# EAGLE library part EK-TM4C1294XL_BOOST1 (library EE445L)
Booster pack 1, Texas Instruments TM4C1294 Connected LaunchPad www.ti.com/tool/ek-tm4c1294xl This board is based on the TM4C1294NCPDT microcontroller, which is a120MHz 32-bit ARM Cortex-M4 CPU with floating point, 1MB Flash, 256KB SRAM, 6KB EEPROM, Integrated 10/100 Ethernet MAC+PHY, data protection hardware, 8x 32-bit timers, dual 12-bit 2MSPS ADCs, motion control PWMs, USB H/D/O
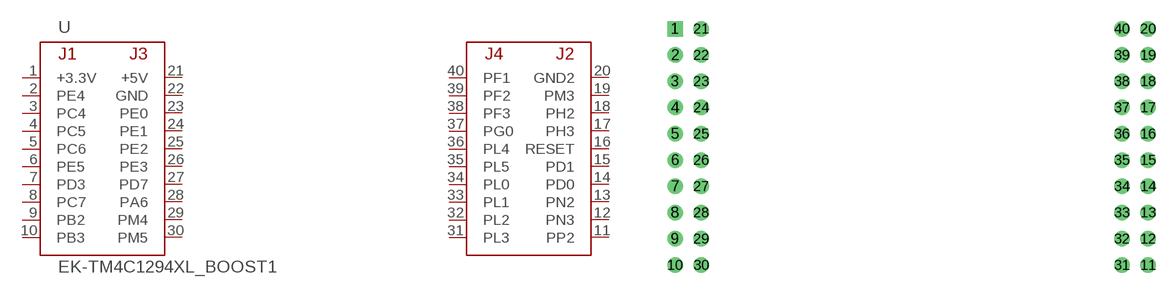
[diagram p25: symbol with the pads of TM4C123LAUNCHPAD; footprint TM4C123LAUNCHPAD]

Designator prefix -

## EK-TM4C1294XL_BOOST1  [TM4C123LAUNCHPAD]
1  +3.3V  pwr
2  PE4
3  PC4
4  PC5
5  PC6
6  PE5
7  PD3
8  PC7
9  PB2
10  PB3
11  PP2
12  PN3
13  PN2
14  PD0
15  PD1
16  RESET  in
17  PH3
18  PH2
19  PM3
20  GND2  pwr
21  +5V  pwr
22  GND  pwr
23  PE0
24  PE1
25  PE2
26  PE3
27  PD7
28  PA6
29  PM4
30  PM5
31  PL3
32  PL2
33  PL1
34  PL0
35  PL5
36  PL4
37  PG0
38  PF3
39  PF2
40  PF1

## Footprint TM4C123LAUNCHPAD (pad centres in mm)
Two Dual In Line Samtec ESW-110-37-L-D or FCI 67997-210HLF, Digikey 609-3236-ND
drill 0.991 square: 1 -22.86,12.7
drill 0.991: 2 -22.86,10.16; 3 -22.86,7.62; 4 -22.86,5.08; 5 -22.86,2.54; 6 -22.86,0; 7 -22.86,-2.54; 8 -22.86,-5.08; 9 -22.86,-7.62; 10 -22.86,-10.16; 11 22.86,-10.16; 12 22.86,-7.62; 13 22.86,-5.08; 14 22.86,-2.54; 15 22.86,0; 16 22.86,2.54; 17 22.86,5.08; 18 22.86,7.62; 19 22.86,10.16; 20 22.86,12.7; 21 -20.32,12.7; 22 -20.32,10.16; 23 -20.32,7.62; 24 -20.32,5.08; 25 -20.32,2.54; 26 -20.32,0; 27 -20.32,-2.54; 28 -20.32,-5.08; 29 -20.32,-7.62; 30 -20.32,-10.16; 31 20.32,-10.16; 32 20.32,-7.62; 33 20.32,-5.08; 34 20.32,-2.54; 35 20.32,0; 36 20.32,2.54; 37 20.32,5.08; 38 20.32,7.62; 39 20.32,10.16; 40 20.32,12.7